# EAGLE library part 74F32 (library a3640_edu_v0.1)
74F32 SOIC14
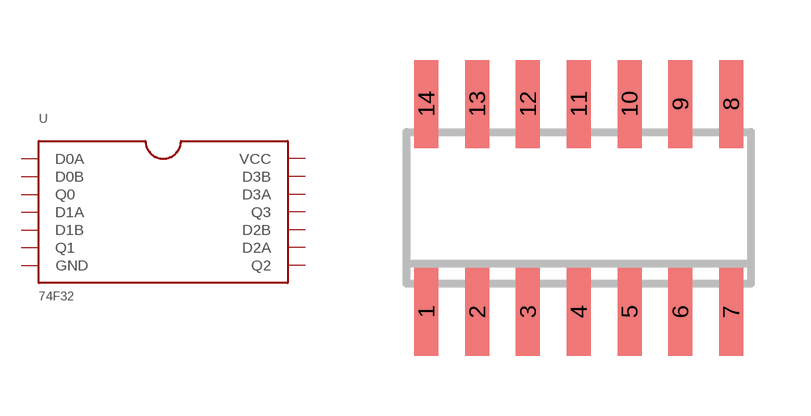
[diagram p9: symbol with the pads of 74F32; footprint 74F32]

Designator prefix -

## 74F32  [74F32]
1  D0A
2  D0B
3  Q0
4  D1A
5  D1B  pwr
6  Q1  pwr
7  GND
8  Q2
9  D2A
10  D2B
11  Q3
12  D3A
13  D3B
14  VCC  pwr

## Footprint 74F32 (pad centres in mm)
smd 0.6 x 2.2: 1 -4.445,-2.6; 2 -3.175,-2.6; 3 -1.905,-2.6; 4 -0.635,-2.6; 5 0.635,-2.6; 6 1.905,-2.6; 7 3.175,-2.6; 8 3.175,2.6; 9 1.905,2.6; 10 0.635,2.6; 11 -0.635,2.6; 12 -1.905,2.6; 13 -3.175,2.6; 14 -4.445,2.6